# Altium footprint library B105connectors.PcbLib: 21 footprints (part 1 of 2)
Each footprint in its own frame and in the unit in brackets; x right, y up, seen from the top. Pads: shape width x height; smd on the part's side, far side on the other; paste and mask are expansions set on the pad; w line width, h text height; cw(c..) or ccw(c..) is an arc to the next point about the centre after c.
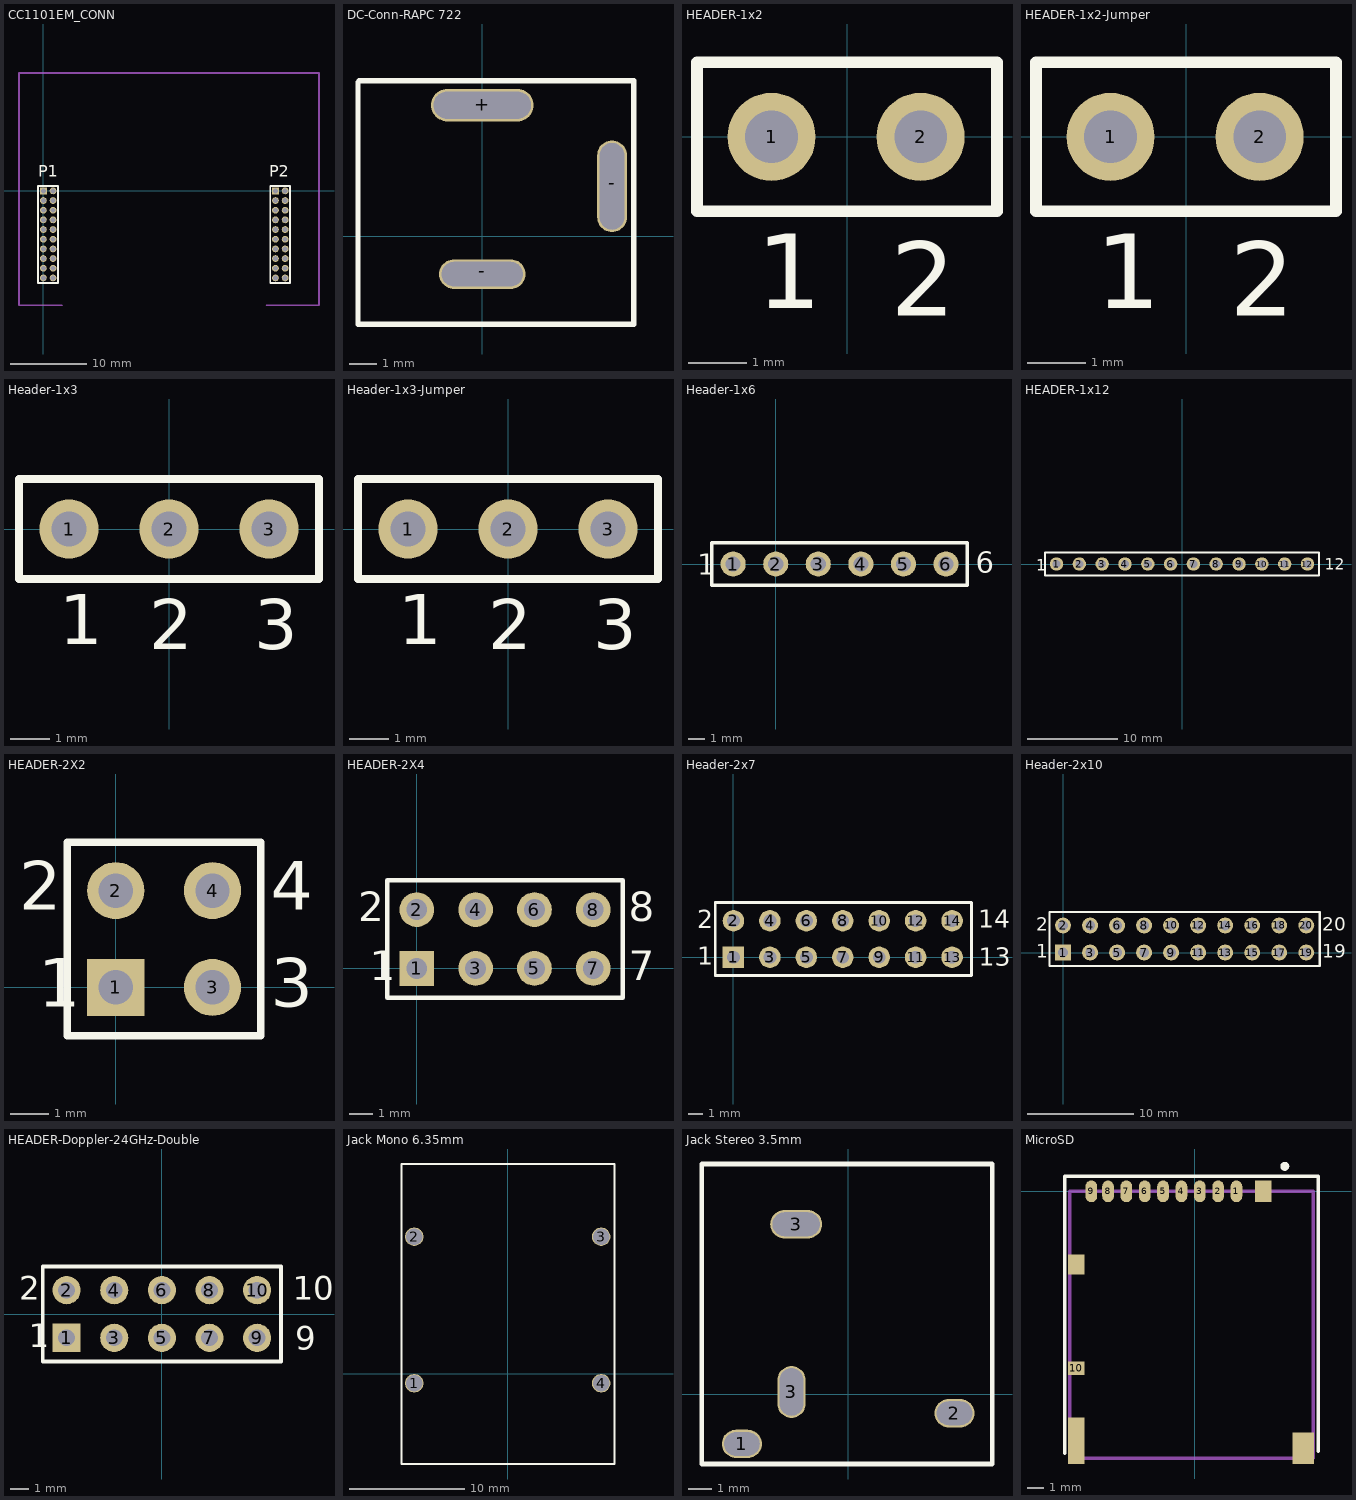
[diagram p0: the footprints below, top view; thin cyan lines are the x and y axes]

## CC1101EM_CONN [mil]
pads (40):
  rect 35x35 hole 25: P1-1(0,0) P2-1(1200,0)
  round 35 hole 25: P1-2(50,0) P1-3(0,-50) P1-4(50,-50) P1-5(0,-100) P1-6(50,-100) P1-7(0,-150) P1-8(50,-150) P1-9(0,-200) P1-10(50,-200) P1-11(0,-250) P1-12(50,-250) P1-13(0,-300) P1-14(50,-300) P1-15(0,-350) P1-16(50,-350) P1-17(0,-400) P1-18(50,-400) P1-19(0,-450) P1-20(50,-450) P2-2(1250,0) P2-3(1200,-50) P2-4(1250,-50) P2-5(1200,-100) P2-6(1250,-100) P2-7(1200,-150) P2-8(1250,-150) P2-9(1200,-200) P2-10(1250,-200) P2-11(1200,-250) P2-12(1250,-250) P2-13(1200,-300) P2-14(1250,-300) P2-15(1200,-350) P2-16(1250,-350) P2-17(1200,-400) P2-18(1250,-400) P2-19(1200,-450) P2-20(1250,-450)
Top Overlay:
  lines w10: -27,-476 -27,25 75,25 75,-476 -27,-476 ; 1173,-476 1173,25 1275,25 1275,-476 1173,-476
  text "P1" at -27,74 h60
  text "P2" at 1169,74 h60
Mechanical 1:
  lines w7.87: -125.98,-590.55 98.43,-590.55 ; 1153.54,-590.55 1425.2,-590.55
  lines w10: -125,-590 -125,610 1425,610 1425,-590

## DC-Conn-RAPC 722 [mm]
pads (3):
  oval 3.8x1.2 hole 1 slot 3.6 at 0 deg: +(0,4.85)
  oval 3.2x1.1 hole 0.9 slot 3 at 0 deg: -(0,-1.4)
  oval 1.1x3.4 hole 0.9 slot 3.2 at 90 deg: -(4.8,1.85)
Top Overlay:
  lines w0.2: -4.6,-3.25 5.6,-3.25 5.6,5.75 -4.55,5.75 -4.6,5.7 -4.6,-3.25
3D body: height 10.92, standoff -3.56, extent -4.4,-9.102 5.125,5.502

## HEADER-1x2 [mm]
pads (2):
  round 1.5 hole 0.9: 1(-1.29,0) 2(1.25,0)
Top Overlay:
  lines w0.2: -2.56,-1.27 2.55,-1.27 2.55,1.27 -2.56,1.27 -2.56,-1.27
  text "2" at 0.742,-3.048 h1.27
  text "1" at -1.544,-2.921 h1.27
3D body: height 8.54, standoff -3, extent -2.57,-1.245 -0.03,1.245
3D body: height 8.54, standoff -3, extent -0.02,-1.245 2.52,1.245

## HEADER-1x2-Jumper [mm]
pads (2):
  round 1.5 hole 0.9: 1(-1.29,0) 2(1.25,0)
Top Overlay:
  lines w0.2: -2.56,-1.27 2.55,-1.27 2.55,1.27 -2.56,1.27 -2.56,-1.27
  text "2" at 0.742,-3.048 h1.27
  text "1" at -1.544,-2.921 h1.27
3D body: height 8.3, standoff 3.8, extent -1.752,-1.22 1.712,1.22
3D body: height 8.54, standoff -3, extent -2.57,-1.245 -0.03,1.245
3D body: height 8.54, standoff -3, extent -0.02,-1.245 2.52,1.245

## Header-1x3 [mm]
pads (3):
  round 1.5 hole 0.9: 1(-2.54,0) 2(0,0) 3(2.54,0)
Top Overlay:
  lines w0.2: -3.81,-1.27 -3.81,1.27 3.81,1.27 3.81,-1.27 -3.81,-1.27
  text "1" at -2.794,-2.921 h1.27
  text "2" at -0.508,-3.048 h1.27
  text "3" at 2.159,-3.048 h1.27
3D body: height 8.54, standoff -3, extent -3.81,-1.22 3.81,1.27

## Header-1x3-Jumper [mm]
pads (3):
  round 1.5 hole 0.9: 1(-2.54,0) 2(0,0) 3(2.54,0)
Top Overlay:
  lines w0.2: -3.81,-1.27 3.81,-1.27 3.81,1.27 -3.81,1.27 -3.81,-1.27
  text "3" at 2.159,-3.048 h1.27
  text "2" at -0.508,-3.048 h1.27
  text "1" at -2.794,-2.921 h1.27
3D body: height 8.54, standoff -3, extent -3.81,-1.22 3.81,1.27
3D body: height 8.31, standoff 3.81, extent -0.462,-1.22 3.002,1.22

## Header-1x6 [mm]
pads (6):
  round 1.5 hole 0.9: 1(-2.54,0) 2(0,0) 3(2.54,0) 4(5.08,0) 5(7.62,0) 6(10.16,0)
Top Overlay:
  lines w0.2: -3.81,-1.27 -3.81,1.27 11.43,1.27 11.43,-1.27 -3.81,-1.27
  text "6" at 11.938,-0.508 h1.27
  text "1" at -4.699,-0.635 h1.27
3D body: height 8.54, standoff -3, extent 3.81,-1.22 11.43,1.27
3D body: height 8.54, standoff -3, extent -3.81,-1.22 3.81,1.27

## HEADER-1x12 [mm]
pads (12):
  round 1.5 hole 0.9: 1(-13.97,0) 2(-11.43,0) 3(-8.89,0) 4(-6.35,0) 5(-3.81,0) 6(-1.27,0) 7(1.27,0) 8(3.81,0) 9(6.35,0) 10(8.89,0) 11(11.43,0) 12(13.97,0)
Top Overlay:
  lines w0.2: -15.24,-1.27 -15.24,1.27 15.24,1.27 15.24,-1.27 -15.24,-1.27
  text "12" at 15.875,-0.635 h1.27
  text "1" at -16.256,-0.762 h1.27
3D body: height 8.54, standoff -3, extent -15.24,-1.245 -2.54,1.245
3D body: height 8.54, standoff -3, extent -2.54,-1.245 10.16,1.245
3D body: height 8.54, standoff -3, extent 10.16,-1.245 15.24,1.245

## HEADER-2X2 [mm] "Connector; Header; 2x2 Position"
pads (4):
  rect 1.5x1.5 hole 0.9: 1(0,0)
  round 1.5 hole 0.9: 2(0,2.54) 3(2.54,0) 4(2.54,2.54)
Top Overlay:
  lines w0.2: -1.27,-1.27 3.81,-1.27 3.81,3.81 -1.27,3.81 -1.27,-1.27
  text "3" at 4.064,-0.508 h1.27
  text "4" at 4.064,2.032 h1.27
  text "2" at -2.54,2.032 h1.27
  text "1" at -2.032,-0.508 h1.27
3D body: height 8.54, standoff -3, extent 1.28,-1.24 3.82,1.25
3D body: height 8.54, standoff -3, extent -1.27,-1.24 1.27,1.25
3D body: height 8.54, standoff -3, extent 1.28,1.26 3.82,3.75
3D body: height 8.54, standoff -3, extent -1.27,1.26 1.27,3.75

## HEADER-2X4 [mm] "Connector; Header; 4x2 Position"
pads (8):
  rect 1.5x1.5 hole 0.9: 1(0,0)
  round 1.5 hole 0.9: 2(0,2.54) 3(2.54,0) 4(2.54,2.54) 5(5.08,0) 6(5.08,2.54) 7(7.62,0) 8(7.62,2.54)
Top Overlay:
  lines w0.2: -1.27,-1.27 8.89,-1.27 8.89,3.81 -1.27,3.81 -1.27,-1.27
  text "2" at -2.54,2.032 h1.27
  text "1" at -2.032,-0.508 h1.27
  text "7" at 9.144,-0.508 h1.27
  text "8" at 9.144,2.032 h1.27
3D body: height 8.54, standoff -3, extent -1.27,1.26 1.27,3.75
3D body: height 8.54, standoff -3, extent 1.28,1.26 3.82,3.75
3D body: height 8.54, standoff -3, extent -1.27,-1.24 1.27,1.25
3D body: height 8.54, standoff -3, extent 1.28,-1.24 3.82,1.25
3D body: height 8.54, standoff -3, extent 6.38,-1.24 8.92,1.25
3D body: height 8.54, standoff -3, extent 3.83,-1.24 6.37,1.25
3D body: height 8.54, standoff -3, extent 6.38,1.26 8.92,3.75
3D body: height 8.54, standoff -3, extent 3.83,1.26 6.37,3.75

## Header-2x7 [mm] "Connector; Header; 7x2 Position"
pads (14):
  rect 1.5x1.5 hole 0.9: 1(0,0)
  round 1.5 hole 0.9: 2(0,2.54) 3(2.54,0) 4(2.54,2.54) 5(5.08,0) 6(5.08,2.54) 7(7.62,0) 8(7.62,2.54) 9(10.16,0) 10(10.16,2.54) 11(12.7,0) 12(12.7,2.54) 13(15.24,0) 14(15.24,2.54)
Top Overlay:
  lines w0.2: -1.27,-1.27 0.635,-1.27 16.6,-1.27 16.6,3.81 0.635,3.81 -1.27,3.81 -1.27,-1.27
  text "14" at 17.05,2.05 h1.27
  text "13" at 17.1,-0.6 h1.27
  text "1" at -2.54,-0.508 h1.27
  text "2" at -2.54,2.032 h1.27
3D body: height 8.54, standoff -3, extent 1.23,-1.24 3.77,1.25
3D body: height 8.54, standoff -3, extent -1.32,-1.24 1.22,1.25
3D body: height 8.54, standoff -3, extent 1.23,1.26 3.77,3.75
3D body: height 8.54, standoff -3, extent -1.32,1.26 1.22,3.75
3D body: height 8.54, standoff -3, extent 6.33,-1.24 8.87,1.25
3D body: height 8.54, standoff -3, extent 3.78,-1.24 6.32,1.25
3D body: height 8.54, standoff -3, extent 6.33,1.26 8.87,3.75
3D body: height 8.54, standoff -3, extent 3.78,1.26 6.32,3.75
3D body: height 8.54, standoff -3, extent 11.43,-1.24 13.97,1.25
3D body: height 8.54, standoff -3, extent 8.88,-1.24 11.42,1.25
3D body: height 8.54, standoff -3, extent 11.43,1.26 13.97,3.75
3D body: height 8.54, standoff -3, extent 8.88,1.26 11.42,3.75
3D body: height 8.54, standoff -3, extent 13.98,-1.24 16.52,1.25
3D body: height 8.54, standoff -3, extent 13.98,1.26 16.52,3.75

## Header-2x10 [mm] "Connector; Header; 10x2 Position"
pads (20):
  rect 1.5x1.5 hole 0.9: 1(0,0)
  round 1.5 hole 0.9: 2(0,2.54) 3(2.54,0) 4(2.54,2.54) 5(5.08,0) 6(5.08,2.54) 7(7.62,0) 8(7.62,2.54) 9(10.16,0) 10(10.16,2.54) 11(12.7,0) 12(12.7,2.54) 13(15.24,0) 14(15.24,2.54) 15(17.78,0) 16(17.78,2.54) 17(20.32,0) 18(20.32,2.54) 19(22.86,0) 20(22.86,2.54)
Top Overlay:
  lines w0.2: -1.27,-1.27 -1.27,3.81 0.635,3.81 24.13,3.81 24.13,-1.27 0.635,-1.27 -1.27,-1.27
  text "2" at -2.54,2.032 h1.27
  text "1" at -2.54,-0.508 h1.27
  text "19" at 24.384,-0.508 h1.27
  text "20" at 24.384,2.032 h1.27
3D body: height 8.54, standoff -3, extent 19.08,1.26 21.62,3.75
3D body: height 8.54, standoff -3, extent 21.63,1.26 24.17,3.75
3D body: height 8.54, standoff -3, extent 19.08,-1.24 21.62,1.25
3D body: height 8.54, standoff -3, extent 21.63,-1.24 24.17,1.25
3D body: height 8.54, standoff -3, extent 13.98,1.26 16.52,3.75
3D body: height 8.54, standoff -3, extent 16.53,1.26 19.07,3.75
3D body: height 8.54, standoff -3, extent 13.98,-1.24 16.52,1.25
3D body: height 8.54, standoff -3, extent 16.53,-1.24 19.07,1.25
3D body: height 8.54, standoff -3, extent 8.88,1.26 11.42,3.75
3D body: height 8.54, standoff -3, extent 11.43,1.26 13.97,3.75
3D body: height 8.54, standoff -3, extent 8.88,-1.24 11.42,1.25
3D body: height 8.54, standoff -3, extent 11.43,-1.24 13.97,1.25
3D body: height 8.54, standoff -3, extent 3.78,1.26 6.32,3.75
3D body: height 8.54, standoff -3, extent 6.33,1.26 8.87,3.75
3D body: height 8.54, standoff -3, extent 3.78,-1.24 6.32,1.25
3D body: height 8.54, standoff -3, extent 6.33,-1.24 8.87,1.25
3D body: height 8.54, standoff -3, extent -1.32,1.26 1.22,3.75
3D body: height 8.54, standoff -3, extent 1.23,1.26 3.77,3.75
3D body: height 8.54, standoff -3, extent -1.32,-1.24 1.22,1.25
3D body: height 8.54, standoff -3, extent 1.23,-1.24 3.77,1.25

## HEADER-Doppler-24GHz-Double [mm]
pads (10):
  rect 1.5x1.5 hole 0.9: 1(-5.08,-1.27)
  round 1.5 hole 0.9: 2(-5.08,1.27) 3(-2.54,-1.27) 4(-2.54,1.27) 5(0,-1.27) 6(0,1.27) 7(2.54,-1.27) 8(2.54,1.27) 9(5.08,-1.27) 10(5.08,1.27)
Top Overlay:
  lines w0.2: -6.35,-2.54 -6.35,2.54 6.35,2.54 6.35,-2.54 -6.35,-2.54
  text "10" at 6.985,0.762 h1.27
  text "9" at 7.112,-1.905 h1.27
  text "1" at -7.112,-1.778 h1.27
  text "2" at -7.62,0.762 h1.27
3D body: height 2.51, standoff -3, extent -6.35,-11.08 6.35,-0.95
3D body: height 8.54, standoff -3, extent -6.35,0.025 6.35,2.515

## Jack Mono 6.35mm [mm]
pads (4):
  round 1.6 hole 1.4: 1(-8.1,-0.8) 2(-8.1,11.9) 3(8.1,11.9) 4(8.1,-0.8)
Top Overlay:
  lines w0.2: -9.2,-7.8 -9.2,18.2 9.25,18.2 9.25,-7.8 -9.2,-7.8
3D body: height 17.8, standoff -2.14, extent -9.05,-7.647 9.15,24.147

## Jack Stereo 3.5mm [mm]
pads (4):
  oval 1.7x1.2 hole 1 slot 1.5 at 0 deg: 1(-4.5,-2.1) 2(4.5,-0.8)
  oval 1.2x2.2 hole 1 slot 2 at 90 deg: 3(-2.4,0.1)
  oval 2.2x1.2 hole 1 slot 2 at 0 deg: 3(-2.2,7.2)
Top Overlay:
  lines w0.2: -6.2,-2.95 -6.2,9.75 6.1,9.75 6.1,-2.95 -6.2,-2.95
3D body: height 6, standoff -3, extent -6.05,-2.417 5.95,13.165

## MicroSD [mm]
pads (14):
  oval 0.7x1.3 smd: 1(2.5,0) 2(1.4,0) 3(0.3,0) 4(-0.8,0) 5(-1.9,0) 6(-3,0) 7(-4.1,0) 8(-5.2,0) 9(-6.2,0)
  rect 1x0.8 smd: 10(-7.1,-10.6)
  rect 1x2.8 smd: ""(-7.1,-14.95)
  rect 1x1.2 smd: ""(-7.1,-4.4)
  rect 1x1.3 smd: ""(4.1,0)
  rect 1.3x1.9 smd: ""(6.5,-15.4)
Top Overlay:
  circle w0.254: c5.4,1.5 r0.141
  lines w0.2: -7.8,-15.7 -7.8,0.3 -7.8,0.9 7.4,0.9 7.4,-15.6
Mechanical 13:
  lines w0.2: -7.5,-16 7.1,-16 7.1,0 -7.5,0 -7.5,-16
3D body: height 1.72, standoff -0.01, extent -7.5,-16 7.1,0